# Altium schematic symbol library PCI_custom_98.SchLib: 2 symbols
Pins are listed as number, name and electrical type; pins without a type are passive.

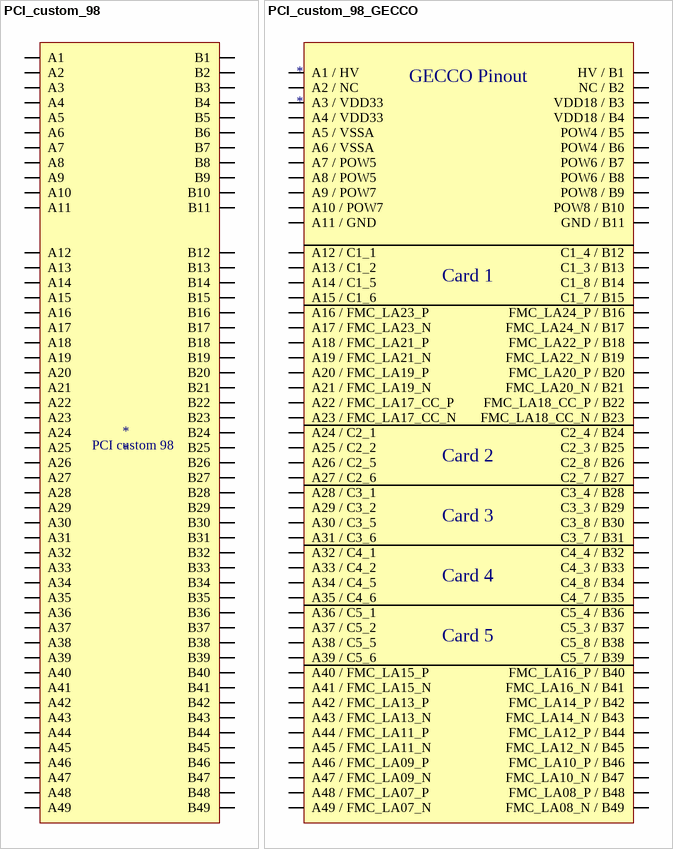
[diagram p0: symbols PCI_custom_98 to PCI_custom_98_GECCO]

## PCI_custom_98
designator *
footprint PCI_vertical_98
footprint PCI_horizontal_vertical_98
footprint PCI_horizontal_98
footprint PCI_for_PCB_98
pins: A1, A2, A3, A4, A5, A6, A7, A8, A9, A10, A11, A12, A13, A14, A15, A16, A17, A18, A19, A20, A21, A22, A23, A24, A25, A26, A27, A28, A29, A30, A31, A32, A33, A34, A35, A36, A37, A38, A39, A40, A41, A42, A43, A44, A45, A46, A47, A48, A49, B1, B2, B3, B4, B5, B6, B7, B8, B9, B10, B11, B12, B13, B14, B15, B16, B17, B18, B19, B20, B21, B22, B23, B24, B25, B26, B27, B28, B29, B30, B31, B32, B33, B34, B35, B36, B37, B38, B39, B40, B41, B42, B43, B44, B45, B46, B47, B48, B49
text: PCI custom 98

## PCI_custom_98_GECCO
designator *
footprint PCI_for_PCB_98
pins: A1 A1 / HV, A2 A2 / NC, A3 A3 / VDD33, A4 A4 / VDD33, A5 A5 / VSSA, A6 A6 / VSSA, A7 A7 / POW5, A8 A8 / POW5, A9 A9 / POW7, A10 A10 / POW7, A11 A11 / GND, A12 A12 / C1_1, A13 A13 / C1_2, A14 A14 / C1_5, A15 A15 / C1_6, A16 A16 / FMC_LA23_P, A17 A17 / FMC_LA23_N, A18 A18 / FMC_LA21_P, A19 A19 / FMC_LA21_N, A20 A20 / FMC_LA19_P, A21 A21 / FMC_LA19_N, A22 A22 / FMC_LA17_CC_P, A23 A23 / FMC_LA17_CC_N, A24 A24 / C2_1, A25 A25 / C2_2, A26 A26 / C2_5, A27 A27 / C2_6, A28 A28 / C3_1, A29 A29 / C3_2, A30 A30 / C3_5, A31 A31 / C3_6, A32 A32 / C4_1, A33 A33 / C4_2, A34 A34 / C4_5, A35 A35 / C4_6, A36 A36 / C5_1, A37 A37 / C5_2, A38 A38 / C5_5, A39 A39 / C5_6, A40 A40 / FMC_LA15_P, A41 A41 / FMC_LA15_N, A42 A42 / FMC_LA13_P, A43 A43 / FMC_LA13_N, A44 A44 / FMC_LA11_P, A45 A45 / FMC_LA11_N, A46 A46 / FMC_LA09_P, A47 A47 / FMC_LA09_N, A48 A48 / FMC_LA07_P, A49 A49 / FMC_LA07_N, B1 HV / B1, B2 NC / B2, B3 VDD18 / B3, B4 VDD18 / B4, B5 POW4 / B5, B6 POW4 / B6, B7 POW6 / B7, B8 POW6 / B8, B9 POW8 / B9, B10 POW8 / B10, B11 GND / B11, B12 C1_4 / B12, B13 C1_3 / B13, B14 C1_8 / B14, B15 C1_7 / B15, B16 FMC_LA24_P / B16, B17 FMC_LA24_N / B17, B18 FMC_LA22_P / B18, B19 FMC_LA22_N / B19, B20 FMC_LA20_P / B20, B21 FMC_LA20_N / B21, B22 FMC_LA18_CC_P / B22, B23 FMC_LA18_CC_N / B23, B24 C2_4 / B24, B25 C2_3 / B25, B26 C2_8 / B26, B27 C2_7 / B27, B28 C3_4 / B28, B29 C3_3 / B29, B30 C3_8 / B30, B31 C3_7 / B31, B32 C4_4 / B32, B33 C4_3 / B33, B34 C4_8 / B34, B35 C4_7 / B35, B36 C5_4 / B36, B37 C5_3 / B37, B38 C5_8 / B38, B39 C5_7 / B39, B40 FMC_LA16_P / B40, B41 FMC_LA16_N / B41, B42 FMC_LA14_P / B42, B43 FMC_LA14_N / B43, B44 FMC_LA12_P / B44, B45 FMC_LA12_N / B45, B46 FMC_LA10_P / B46, B47 FMC_LA10_N / B47, B48 FMC_LA08_P / B48, B49 FMC_LA08_N / B49
text: GECCO Pinout; Card 1; Card 2; Card 3; Card 4; Card 5